# Altium schematic symbol library DA2025.Schlib: 1 symbol
Pins are listed as number, name and electrical type; pins without a type are passive.

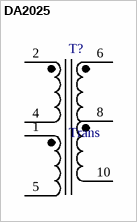
[diagram p0: symbol DA2025]

## DA2025
designator T?, comment Trans
Transformer
pins: 1 2, 2, 4, 5, 6, 8, 10